# Altium schematic symbol library NRF24.SchLib: 1 symbol
Pins are listed as number, name and electrical type; pins without a type are passive.

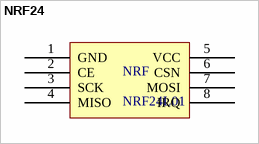
[diagram p0: symbol NRF24]

## NRF24
designator NRF, comment NRF24L01
footprint NRF24
pins: 1 GND, 2 CE, 3 SCK, 4 MISO, 5 VCC, 6 CSN, 7 MOSI, 8 IRQ